# Altium schematic symbol library Isolator.SchLib: 419 symbols (part 5 of 5)
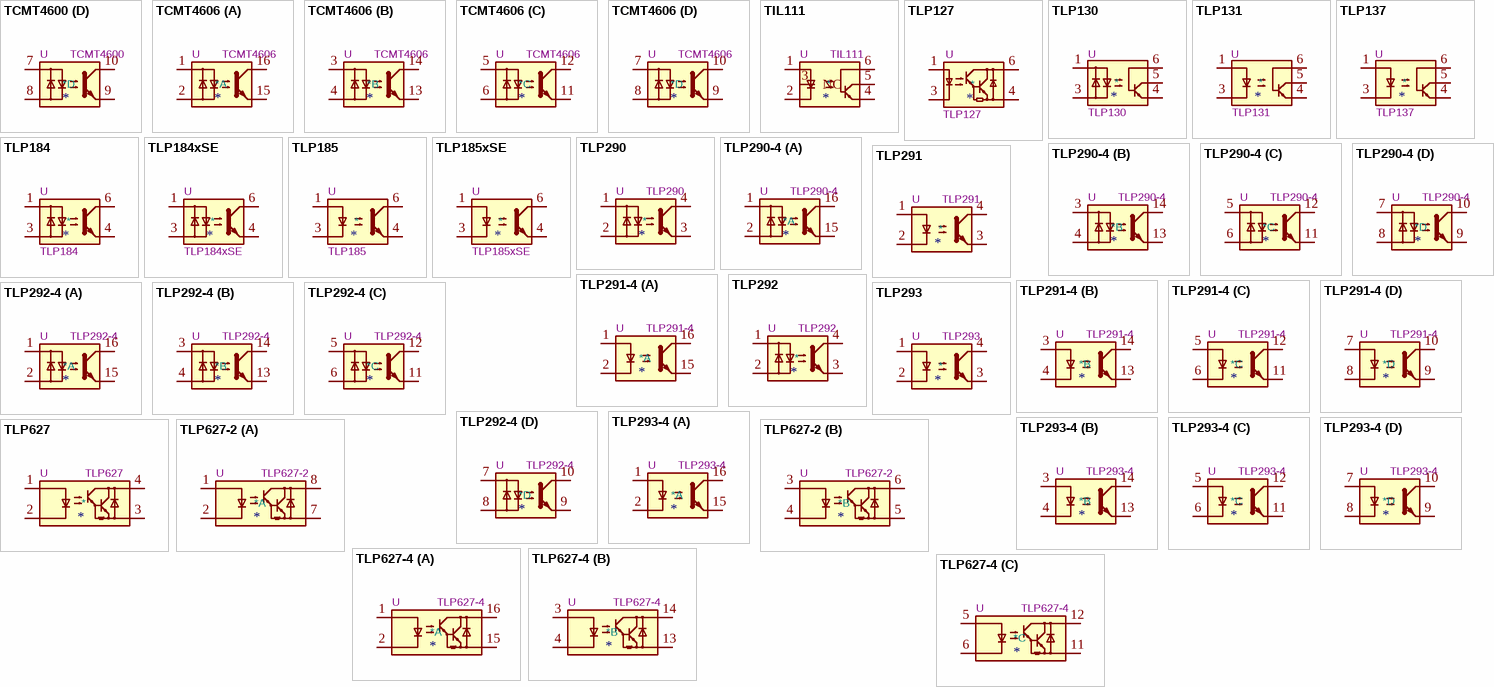
[diagram p16: symbols TCMT4600 to TLP627-4]

## TLP131
designator *  value TLP131  Reference: U
DC Optocoupler Base Connected, Vce 80V, CTR 50-200%, SOIC-5-6 (MFSOP-5-6); ki_keywords: NPN DC Optocoupler Base Connected; ki_fp_filters: Toshiba?SOIC*6?4.4x3.6mm?P1.27mm*; Footprint: Package_SO:Toshiba_SOIC-5-6_4.4x3.6mm_P1.27mm; Datasheet: https://www.mouser.com/datasheet/2/408/toshiba%20america%20electronic%20components%20inc_tlp131_e-1209373.pdf; Description_: DC Optocoupler Base Connected, Vce 80V, CTR 50-200%, SOIC-5-6 (MFSOP-5-6)
pins: 1, 3, 4, 5, 6

## TLP137
designator *  value TLP137  Reference: U
DC Optocoupler Base Connected, Vce 80V, CTR 100-200%, SOIC-5-6 (MFSOP-5-6); ki_keywords: NPN DC Optocoupler Base Connected; ki_fp_filters: Toshiba?SOIC*6?4.4x3.6mm?P1.27mm*; Footprint: Package_SO:Toshiba_SOIC-5-6_4.4x3.6mm_P1.27mm; Datasheet: https://toshiba.semicon-storage.com/info/docget.jsp?did=16744&prodName=TLP137; Description_: DC Optocoupler Base Connected, Vce 80V, CTR 100-200%, SOIC-5-6 (MFSOP-5-6)
pins: 1, 3, 4, 5, 6

## TLP184
designator *  value TLP184  Reference: U
AC/DC Optocoupler, Vce 80V, CTR 50-100%, SOIC-4-6 (MFSOP-4-6); ki_keywords: NPN AC DC Optocoupler; ki_fp_filters: Toshiba?SOIC*6?4.4x3.6mm?P1.27mm*; Footprint: Package_SO:Toshiba_SOIC-4-6_4.4x3.6mm_P1.27mm; Datasheet: https://toshiba.semicon-storage.com/info/docget.jsp?did=11793&prodName=TLP184; Description_: AC/DC Optocoupler, Vce 80V, CTR 50-100%, SOIC-4-6 (MFSOP-4-6)
pins: 1, 3, 4, 6

## TLP184xSE
designator *  value TLP184xSE  Reference: U
AC/DC Optocoupler, Vce 80V, CTR 50-100%, SOIC-4-6 (MFSOP-4-6); ki_keywords: NPN AC DC Optocoupler; ki_fp_filters: Toshiba?SOIC*6?4.4x3.6mm?P1.27mm*; Footprint: Package_SO:Toshiba_SOIC-4-6_4.4x3.6mm_P1.27mm; Datasheet: https://toshiba.semicon-storage.com/info/docget.jsp?did=14118&prodName=TLP184(SE; Description_: AC/DC Optocoupler, Vce 80V, CTR 50-100%, SOIC-4-6 (MFSOP-4-6)
pins: 1, 3, 4, 6

## TLP185
designator *  value TLP185  Reference: U
DC Optocoupler, Vce 80V, CTR 50-100%, SOIC-4-6 (MFSOP-4-6); ki_keywords: NPN DC Optocoupler; ki_fp_filters: SOIC*4.55x3.7mm*P2.54mm*; Footprint: Package_SO:SOIC-4_4.55x3.7mm_P2.54mm; Datasheet: https://toshiba.semicon-storage.com/info/docget.jsp?did=11791&prodName=TLP185; Description_: DC Optocoupler, Vce 80V, CTR 50-100%, SOIC-4-6 (MFSOP-4-6)
pins: 1, 3, 4, 6

## TLP185xSE
designator *  value TLP185xSE  Reference: U
DC Optocoupler, Vce 80V, CTR 50-100%, SOIC-4-6 (MFSOP-4-6); ki_keywords: NPN DC Optocoupler; ki_fp_filters: SOIC*4.55x3.7mm*P2.54mm*; Footprint: Package_SO:SOIC-4_4.55x3.7mm_P2.54mm; Datasheet: https://toshiba.semicon-storage.com/info/docget.jsp?did=14111&prodName=TLP185(SE; Description_: DC Optocoupler, Vce 80V, CTR 50-100%, SOIC-4-6 (MFSOP-4-6)
pins: 1, 3, 4, 6

## TLP290
designator *  value TLP290  Reference: U
AC/DC Phototransistor Optocoupler, Vce 80V, CTR 50-600%, not recommended for new designs, SOP4; ki_keywords: NPN AC DC Phototransistor Optocoupler; ki_fp_filters: SOP*4*4.4x2.6mm*P1.27mm*; Footprint: Package_SO:SOP-4_4.4x2.6mm_P1.27mm; Datasheet: https://toshiba.semicon-storage.com/info/docget.jsp?did=12882&prodName=TLP290; Description_: AC/DC Phototransistor Optocoupler, Vce 80V, CTR 50-600%, not recommended for new designs, SOP4
pins: 1, 2, 3, 4

## TLP290-4
designator *  value TLP290-4  Reference: U
Quad AC/DC Phototransistor Optocoupler, Vce 80V, CTR 50-600%, SOP16; ki_keywords: NPN AC DC Quad Phototransistor Optocoupler; ki_fp_filters: SOP*4.55x10.3mm*P1.27mm*; Footprint: Package_SO:SOP-16_4.55x10.3mm_P1.27mm; Datasheet: https://toshiba.semicon-storage.com/info/docget.jsp?did=12855&prodName=TLP290-4; Description_: Quad AC/DC Phototransistor Optocoupler, Vce 80V, CTR 50-600%, SOP16
part A pins: 1, 2, 15, 16
part B pins: 3, 4, 13, 14
part C pins: 5, 6, 11, 12
part D pins: 7, 8, 9, 10

## TLP291
designator *  value TLP291  Reference: U
DC Optocoupler, Vce 80V, CTR 50-100%, SOP4; ki_keywords: NPN DC Optocoupler; ki_fp_filters: SOIC*4.55x2.6mm*P1.27mm*; Footprint: Package_SO:SOIC-4_4.55x2.6mm_P1.27mm; Datasheet: https://toshiba.semicon-storage.com/info/docget.jsp?did=12884&prodName=TLP291; Description_: DC Optocoupler, Vce 80V, CTR 50-100%, SOP4
pins: 1, 2, 3, 4

## TLP291-4
designator *  value TLP291-4  Reference: U
Quad DC Optocoupler, Vce 80V, CTR 50-100%, SOP16; ki_keywords: NPN DC Quad Optocoupler; ki_fp_filters: SOIC*4.55x10.3mm*P1.27mm*; Footprint: Package_SO:SOIC-16_4.55x10.3mm_P1.27mm; Datasheet: https://toshiba.semicon-storage.com/info/docget.jsp?did=12858&prodName=TLP291-4; Description_: Quad DC Optocoupler, Vce 80V, CTR 50-100%, SOP16
part A pins: 1, 2, 15, 16
part B pins: 3, 4, 13, 14
part C pins: 5, 6, 11, 12
part D pins: 7, 8, 9, 10

## TLP292
designator *  value TLP292  Reference: U
AC/DC Phototransistor Optocoupler, Vce 80V, CTR 50-200%, SOP4; ki_keywords: NPN AC DC Phototransistor Optocoupler; ki_fp_filters: SOIC*4.55x2.6mm*P1.27mm*; Footprint: Package_SO:SOIC-4_4.55x2.6mm_P1.27mm; Datasheet: https://toshiba.semicon-storage.com/info/TLP292_datasheet_en_20191129.pdf?did=14425&prodName=TLP292; Description_: AC/DC Phototransistor Optocoupler, Vce 80V, CTR 50-200%, SOP4
pins: 1, 2, 3, 4

## TLP292-4
designator *  value TLP292-4  Reference: U
Quad AC/DC Phototransistor Optocoupler, Vce 80V, CTR 50-200%, SOP16; ki_keywords: NPN AC DC Quad Phototransistor Optocoupler; ki_fp_filters: SOP*4.55x10.3mm*P1.27mm*; Footprint: Package_SO:SOP-16_4.55x10.3mm_P1.27mm; Datasheet: https://toshiba.semicon-storage.com/info/TLP292-4_datasheet_en_20190520.pdf?did=15284&prodName=TLP292-4; Description_: Quad AC/DC Phototransistor Optocoupler, Vce 80V, CTR 50-200%, SOP16
part A pins: 1, 2, 15, 16
part B pins: 3, 4, 13, 14
part C pins: 5, 6, 11, 12
part D pins: 7, 8, 9, 10

## TLP293
designator *  value TLP293  Reference: U
DC Optocoupler, Vce 80V, CTR 50-100%, SOP4; ki_keywords: NPN DC Optocoupler; ki_fp_filters: SOIC*4.55x2.6mm*P1.27mm*; Footprint: Package_SO:SOIC-4_4.55x2.6mm_P1.27mm; Datasheet: https://toshiba.semicon-storage.com/info/TLP293_datasheet_en_20191129.pdf?did=14419&prodName=TLP293; Description_: DC Optocoupler, Vce 80V, CTR 50-100%, SOP4
pins: 1, 2, 3, 4

## TLP293-4
designator *  value TLP293-4  Reference: U
Quad DC Optocoupler, Vce 80V, CTR 50-100%, SOP16; ki_keywords: NPN DC Quad Optocoupler; ki_fp_filters: SOIC*4.55x10.3mm*P1.27mm*; Footprint: Package_SO:SOIC-16_4.55x10.3mm_P1.27mm; Datasheet: https://toshiba.semicon-storage.com/info/TLP293-4_datasheet_en_20190520.pdf?did=15287&prodName=TLP293-4; Description_: Quad DC Optocoupler, Vce 80V, CTR 50-100%, SOP16
part A pins: 1, 2, 15, 16
part B pins: 3, 4, 13, 14
part C pins: 5, 6, 11, 12
part D pins: 7, 8, 9, 10

## TLP627
designator *  value TLP627  Reference: U
DC Darlington Optocoupler, Vce 300V, CTR 1000%, DIP4; ki_keywords: NPN Darlington DC Optocoupler; ki_fp_filters: DIP*W7.62mm*; Footprint: Package_DIP:DIP-4_W7.62mm; Datasheet: https://toshiba.semicon-storage.com/info/docget.jsp?did=16914&prodName=TLP627; Description_: DC Darlington Optocoupler, Vce 300V, CTR 1000%, DIP4
pins: 1, 2, 3, 4

## TLP627-2
designator *  value TLP627-2  Reference: U
DC Dual Darlington Optocoupler, Vce 300V, CTR 1000%, DIP8; ki_keywords: NPN Dual Darlington DC Optocoupler; ki_fp_filters: DIP*W7.62mm*; Footprint: Package_DIP:DIP-8_W7.62mm; Datasheet: https://toshiba.semicon-storage.com/info/docget.jsp?did=16914&prodName=TLP627; Description_: DC Dual Darlington Optocoupler, Vce 300V, CTR 1000%, DIP8
part A pins: 1, 2, 7, 8
part B pins: 3, 4, 5, 6

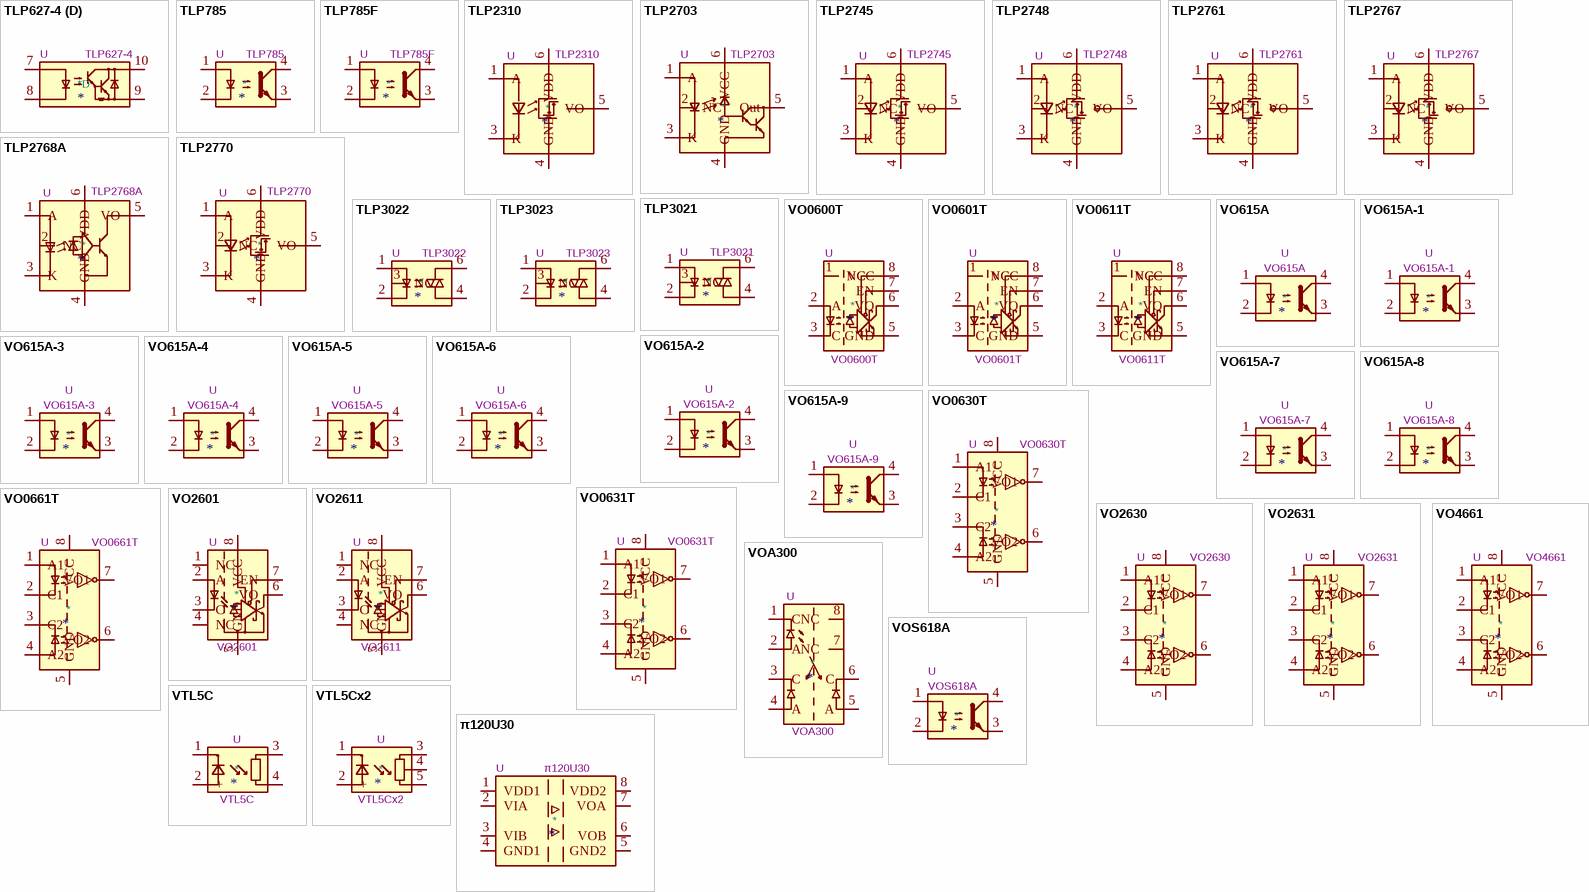
[diagram p11: symbols TLP627-4 to π120U30]

## TLP627-4
designator *  value TLP627-4  Reference: U
DC Quad Darlington Optocoupler, Vce 300V, CTR 1000%, DIP16; ki_keywords: NPN Quad Darlington DC Optocoupler; ki_fp_filters: DIP*W7.62mm*; Footprint: Package_DIP:DIP-16_W7.62mm; Datasheet: https://toshiba.semicon-storage.com/info/docget.jsp?did=16914&prodName=TLP627; Description_: DC Quad Darlington Optocoupler, Vce 300V, CTR 1000%, DIP16
part A pins: 1, 2, 15, 16
part B pins: 3, 4, 13, 14
part C pins: 5, 6, 11, 12
part D pins: 7, 8, 9, 10

## TLP785
designator *  value TLP785  Reference: U
DC Optocoupler, Vce 80V, CTR 50-200%, DIP4; ki_keywords: NPN DC Optocoupler; ki_fp_filters: DIP*W7.62mm*; Footprint: Package_DIP:DIP-4_W7.62mm; Datasheet: https://toshiba.semicon-storage.com/info/docget.jsp?did=10569&prodName=TLP785; Description_: DC Optocoupler, Vce 80V, CTR 50-200%, DIP4
pins: 1, 2, 3, 4

## TLP785F
designator *  value TLP785F  Reference: U
DC Optocoupler, Vce 80V, CTR 50-200%, DIP4F; ki_keywords: NPN DC Optocoupler; ki_fp_filters: DIP*W10.16mm*; Footprint: Package_DIP:DIP-4_W10.16mm; Datasheet: https://toshiba.semicon-storage.com/info/docget.jsp?did=10569&prodName=TLP785F; Description_: DC Optocoupler, Vce 80V, CTR 50-200%, DIP4F
pins: 1, 2, 3, 4

## TLP2310
designator *  value TLP2310  Reference: U
5-Mbps low-power non inverting photocouple, 3.75 kVrms, 2.7 - 5.5 Vdd, push-pull output; ki_keywords: Optocoupler high-speed Toshiba; ki_fp_filters: SO*4.55x3.7mm*P1.27mm*; Footprint: Package_SO:SO-5-6_4.55x3.7mm_P1.27mm; Datasheet: https://toshiba.semicon-storage.com/info/TLP2310_datasheet_en_20220913.pdf?did=29657&prodName=TLP2310; Description_: 5-Mbps low-power non inverting photocouple, 3.75 kVrms, 2.7 - 5.5 Vdd, push-pull output
pins: 1 A, 3 K, 4 GND, 5 VO, 6 VDD

## TLP2703
designator *  value TLP2703  Reference: U
100 kbps, High-speed GaA&As, high-gain, 4.5 - 18 VCC, 5 kVrms, CTR 900%, SO-6L; ki_keywords: NPN Darlington DC Optocoupler; ki_fp_filters: SO*6L*10x3.84mm*P1.27mm*; Footprint: Package_SO:SO-6L_10x3.84mm_P1.27mm; Datasheet: https://toshiba.semicon-storage.com/info/docget.jsp?did=15216&prodName=TLP2703; Description_: 100 kbps, High-speed GaA&As, high-gain, 4.5 - 18 VCC, 5 kVrms, CTR 900%, SO-6L
pins: 1 A, 2 NC, 3 K, 4 GND, 5 Out, 6 VCC

## TLP2745
designator *  value TLP2745  Reference: U
10-Mbps low-power non inverting photocouple,5 kVrms, 4.5 - 30 Vdd, push-pull output; ki_keywords: Photocouple highspeed non inverting push-pull output; ki_fp_filters: SO*6L*10x3.84mm*P1.27mm*; Footprint: Package_SO:SO-6L_10x3.84mm_P1.27mm; Datasheet: https://toshiba.semicon-storage.com/info/docget.jsp?did=29405&prodName=TLP2745; Description_: 10-Mbps low-power non inverting photocouple,5 kVrms, 4.5 - 30 Vdd, push-pull output
pins: 1 A, 2 NC, 3 K, 4 GND, 5 VO, 6 VDD

## TLP2748
designator *  value TLP2748  Reference: U
10-Mbps inverting photocouple,5 kVrms, 4.5 - 30 Vdd, push-pull output, SO-6L; ki_keywords: Photocouple highspeed inverting push-pull output; ki_fp_filters: SO*6L*10x3.84mm*P1.27mm*; Footprint: Package_SO:SO-6L_10x3.84mm_P1.27mm; Datasheet: https://toshiba.semicon-storage.com/info/docget.jsp?did=29407&prodName=TLP2748; Description_: 10-Mbps inverting photocouple,5 kVrms, 4.5 - 30 Vdd, push-pull output, SO-6L
pins: 1 A, 2 NC, 3 K, 4 GND, 5 VO, 6 VDD

## TLP2761
designator *  value TLP2761  Reference: U
15-Mbps inverting photocouple,5 kVrms, 2.7 - 5.5 Vdd, push-pull output; ki_keywords: Photocouple highspeed inverting push-pull output; ki_fp_filters: SO*6L*10x3.84mm*P1.27mm*; Footprint: Package_SO:SO-6L_10x3.84mm_P1.27mm; Datasheet: https://toshiba.semicon-storage.com/info/docget.jsp?did=28819&prodName=TLP2761; Description_: 15-Mbps inverting photocouple,5 kVrms, 2.7 - 5.5 Vdd, push-pull output
pins: 1 A, 2 NC, 3 K, 4 GND, 5 VO, 6 VDD

## TLP2767
designator *  value TLP2767  Reference: U
50-Mbps high speed inverting photocouple,5 kVrms, 2.7 - 5.5 Vdd, push-pull output; ki_keywords: Photocouple highspeed inverting push-pull output; ki_fp_filters: SO*6L*10x3.84mm*P1.27mm*; Footprint: Package_SO:SO-6L_10x3.84mm_P1.27mm; Datasheet: https://toshiba.semicon-storage.com/info/docget.jsp?did=36717&prodName=TLP2767; Description_: 50-Mbps high speed inverting photocouple,5 kVrms, 2.7 - 5.5 Vdd, push-pull output
pins: 1 A, 2 NC, 3 K, 4 GND, 5 VO, 6 VDD

## TLP2768A
designator *  value TLP2768A  Reference: U
20-Mbps high speed inverting photocouple,5 kVrms, 2.7 - 5.5 Vdd, open collector, SO-6L; ki_keywords: Photocouple highspeed inverting open collector output; ki_fp_filters: SO*6L*10x3.84mm*P1.27mm*; Footprint: Package_SO:SO-6L_10x3.84mm_P1.27mm; Datasheet: https://toshiba.semicon-storage.com/info/docget.jsp?did=36717&prodName=TLP2768A; Description_: 20-Mbps high speed inverting photocouple,5 kVrms, 2.7 - 5.5 Vdd, open collector, SO-6L
pins: 1 A, 2 NC, 3 K, 4 GND, 5 VO, 6 VDD

## TLP2770
designator *  value TLP2770  Reference: U
20-Mbps low-power non inverting photocouple,5 kVrms, 2.7 to 5.5 Vdd, push-pull output, SO-6L; ki_keywords: Photocouple highspeed non inverting push-pull output; ki_fp_filters: SO*6L*10x3.84mm*P1.27mm*; Footprint: Package_SO:SO-6L_10x3.84mm_P1.27mm; Datasheet: https://toshiba.semicon-storage.com/info/docget.jsp?did=53548&prodName=TLP2770; Description_: 20-Mbps low-power non inverting photocouple,5 kVrms, 2.7 to 5.5 Vdd, push-pull output, SO-6L
pins: 1 A, 2 NC, 3 K, 4 GND, 5 VO, 6 VDD

## TLP3021
designator *  value TLP3021  Reference: U
Photo-Triac, Vdrm 400V, Ift 15mA, DIP6; ki_keywords: Photo-Triac Opto Triac; ki_fp_filters: Toshiba*11?7A9*; Footprint: Package_DIP:Toshiba_11-7A9; Datasheet: https://toshiba.semicon-storage.com/info/docget.jsp?did=1421&prodName=TLP3021(S); Description_: Photo-Triac, Vdrm 400V, Ift 15mA, DIP6
pins: 1, 2, 3 NC, 4, 6

## TLP3022
designator *  value TLP3022  Reference: U
Photo-Triac, Vdrm 400V, Ift 10mA, DIP6; ki_keywords: Photo-Triac Opto Triac; ki_fp_filters: Toshiba*11?7A9*; Footprint: Package_DIP:Toshiba_11-7A9; Datasheet: https://toshiba.semicon-storage.com/info/docget.jsp?did=1421&prodName=TLP3021(S); Description_: Photo-Triac, Vdrm 400V, Ift 10mA, DIP6
pins: 1, 2, 3 NC, 4, 6

## TLP3023
designator *  value TLP3023  Reference: U
Photo-Triac, Vdrm 400V, Ift 5mA, DIP6; ki_keywords: Photo-Triac Opto Triac; ki_fp_filters: Toshiba*11?7A9*; Footprint: Package_DIP:Toshiba_11-7A9; Datasheet: https://toshiba.semicon-storage.com/info/docget.jsp?did=1421&prodName=TLP3021(S); Description_: Photo-Triac, Vdrm 400V, Ift 5mA, DIP6
pins: 1, 2, 3 NC, 4, 6

## VO0600T
designator *  value VO0600T  Reference: U
Single High Speed CMOS Compatible Optocoupler with enable, dV/dt 1000/us, VCM 10, max 7V VCC, SOIC-8; ki_keywords: High speed optically coupled gates enable; ki_fp_filters: SOIC*3.9x4.9mm?P1.27mm*; Footprint: Package_SO:SOIC-8_3.9x4.9mm_P1.27mm; Datasheet: http://www.vishay.com/doc?84607; Description_: Single High Speed CMOS Compatible Optocoupler with enable, dV/dt 1000/us, VCM 10, max 7V VCC, SOIC-8
pins: 1 NC, 2 A, 3 C, 5 GND, 6 VO, 7 EN, 8 VCC

## VO0601T
designator *  value VO0601T  Reference: U
Single High Speed CMOS Compatible Optocoupler with enable, dV/dt 5000/us, VCM 50, max 7V VCC, SOIC-8; ki_keywords: High speed optically coupled gates enable; ki_fp_filters: SOIC*3.9x4.9mm?P1.27mm*; Footprint: Package_SO:SOIC-8_3.9x4.9mm_P1.27mm; Datasheet: http://www.vishay.com/doc?84607; Description_: Single High Speed CMOS Compatible Optocoupler with enable, dV/dt 5000/us, VCM 50, max 7V VCC, SOIC-8
pins: 1 NC, 2 A, 3 C, 5 GND, 6 VO, 7 EN, 8 VCC

## VO0611T
designator *  value VO0611T  Reference: U
Single High Speed CMOS Compatible Optocoupler with enable, dV/dt 15000/us, VCM 1000, max 7V VCC, SOIC-8; ki_keywords: High speed optically coupled gates enable; ki_fp_filters: SOIC*3.9x4.9mm?P1.27mm*; Footprint: Package_SO:SOIC-8_3.9x4.9mm_P1.27mm; Datasheet: http://www.vishay.com/doc?84607; Description_: Single High Speed CMOS Compatible Optocoupler with enable, dV/dt 15000/us, VCM 1000, max 7V VCC, SOIC-8
pins: 1 NC, 2 A, 3 C, 5 GND, 6 VO, 7 EN, 8 VCC

## VO615A
designator *  value VO615A  Reference: U
DC Optocoupler, Vce 70V, CTR 50-600% @ 5mA, Viso 5000Vrms, DIP4; ki_keywords: NPN DC Optocoupler; ki_fp_filters: DIP*W7.62mm* DIP*W10.16mm* SMDIP*W7.62mm* SMDIP*W9.53mm* SMDIP*W11.48mm*; Datasheet: http://www.vishay.com/docs/81753/vo615a.pdf; Description_: DC Optocoupler, Vce 70V, CTR 50-600% @ 5mA, Viso 5000Vrms, DIP4
pins: 1, 2, 3, 4

## VO615A-1
designator *  value VO615A-1  Reference: U
DC Optocoupler, Vce 70V, CTR 40-80% @ 10mA, Viso 5000Vrms, DIP4; ki_keywords: NPN DC Optocoupler; ki_fp_filters: DIP*W7.62mm* DIP*W10.16mm* SMDIP*W7.62mm* SMDIP*W9.53mm* SMDIP*W11.48mm*; Datasheet: http://www.vishay.com/docs/81753/vo615a.pdf; Description_: DC Optocoupler, Vce 70V, CTR 40-80% @ 10mA, Viso 5000Vrms, DIP4
pins: 1, 2, 3, 4

## VO615A-2
designator *  value VO615A-2  Reference: U
DC Optocoupler, Vce 70V, CTR 63-125% @ 10mA, Viso 5000Vrms, DIP4; ki_keywords: NPN DC Optocoupler; ki_fp_filters: DIP*W7.62mm* DIP*W10.16mm* SMDIP*W7.62mm* SMDIP*W9.53mm* SMDIP*W11.48mm*; Datasheet: http://www.vishay.com/docs/81753/vo615a.pdf; Description_: DC Optocoupler, Vce 70V, CTR 63-125% @ 10mA, Viso 5000Vrms, DIP4
pins: 1, 2, 3, 4

## VO615A-3
designator *  value VO615A-3  Reference: U
DC Optocoupler, Vce 70V, CTR 100-200% @ 10mA, Viso 5000Vrms, DIP4; ki_keywords: NPN DC Optocoupler; ki_fp_filters: DIP*W7.62mm* DIP*W10.16mm* SMDIP*W7.62mm* SMDIP*W9.53mm* SMDIP*W11.48mm*; Datasheet: http://www.vishay.com/docs/81753/vo615a.pdf; Description_: DC Optocoupler, Vce 70V, CTR 100-200% @ 10mA, Viso 5000Vrms, DIP4
pins: 1, 2, 3, 4

## VO615A-4
designator *  value VO615A-4  Reference: U
DC Optocoupler, Vce 70V, CTR 160-320% @ 10mA, Viso 5000Vrms, DIP4; ki_keywords: NPN DC Optocoupler; ki_fp_filters: DIP*W7.62mm* DIP*W10.16mm* SMDIP*W7.62mm* SMDIP*W9.53mm* SMDIP*W11.48mm*; Datasheet: http://www.vishay.com/docs/81753/vo615a.pdf; Description_: DC Optocoupler, Vce 70V, CTR 160-320% @ 10mA, Viso 5000Vrms, DIP4
pins: 1, 2, 3, 4

## VO615A-5
designator *  value VO615A-5  Reference: U
DC Optocoupler, Vce 70V, CTR 50-150% @ 5mA, Viso 5000Vrms, DIP4; ki_keywords: NPN DC Optocoupler; ki_fp_filters: DIP*W7.62mm* DIP*W10.16mm* SMDIP*W7.62mm* SMDIP*W9.53mm* SMDIP*W11.48mm*; Datasheet: http://www.vishay.com/docs/81753/vo615a.pdf; Description_: DC Optocoupler, Vce 70V, CTR 50-150% @ 5mA, Viso 5000Vrms, DIP4
pins: 1, 2, 3, 4

## VO615A-6
designator *  value VO615A-6  Reference: U
DC Optocoupler, Vce 70V, CTR 100-300% @ 5mA, Viso 5000Vrms, DIP4; ki_keywords: NPN DC Optocoupler; ki_fp_filters: DIP*W7.62mm* DIP*W10.16mm* SMDIP*W7.62mm* SMDIP*W9.53mm* SMDIP*W11.48mm*; Datasheet: http://www.vishay.com/docs/81753/vo615a.pdf; Description_: DC Optocoupler, Vce 70V, CTR 100-300% @ 5mA, Viso 5000Vrms, DIP4
pins: 1, 2, 3, 4

## VO615A-7
designator *  value VO615A-7  Reference: U
DC Optocoupler, Vce 70V, CTR 80-160% @ 5mA, Viso 5000Vrms, DIP4; ki_keywords: NPN DC Optocoupler; ki_fp_filters: DIP*W7.62mm* DIP*W10.16mm* SMDIP*W7.62mm* SMDIP*W9.53mm* SMDIP*W11.48mm*; Datasheet: http://www.vishay.com/docs/81753/vo615a.pdf; Description_: DC Optocoupler, Vce 70V, CTR 80-160% @ 5mA, Viso 5000Vrms, DIP4
pins: 1, 2, 3, 4

## VO615A-8
designator *  value VO615A-8  Reference: U
DC Optocoupler, Vce 70V, CTR 130-260% @ 5mA, Viso 5000Vrms, DIP4; ki_keywords: NPN DC Optocoupler; ki_fp_filters: DIP*W7.62mm* DIP*W10.16mm* SMDIP*W7.62mm* SMDIP*W9.53mm* SMDIP*W11.48mm*; Datasheet: http://www.vishay.com/docs/81753/vo615a.pdf; Description_: DC Optocoupler, Vce 70V, CTR 130-260% @ 5mA, Viso 5000Vrms, DIP4
pins: 1, 2, 3, 4

## VO615A-9
designator *  value VO615A-9  Reference: U
DC Optocoupler, Vce 70V, CTR 200-400% @ 5mA, Viso 5000Vrms, DIP4; ki_keywords: NPN DC Optocoupler; ki_fp_filters: DIP*W7.62mm* DIP*W10.16mm* SMDIP*W7.62mm* SMDIP*W9.53mm* SMDIP*W11.48mm*; Datasheet: http://www.vishay.com/docs/81753/vo615a.pdf; Description_: DC Optocoupler, Vce 70V, CTR 200-400% @ 5mA, Viso 5000Vrms, DIP4
pins: 1, 2, 3, 4

## VO0630T
designator *  value VO0630T  Reference: U
Dual High Speed CMOS Compatible Optocoupler, dV/dt 1000/us, VCM 50, max 7V VCC, SOIC-8; ki_keywords: High speed optically coupled gates; ki_fp_filters: SOIC*3.9x4.9mm?P1.27mm*; Footprint: Package_SO:SOIC-8_3.9x4.9mm_P1.27mm; Datasheet: http://www.vishay.com/doc?84607; Description_: Dual High Speed CMOS Compatible Optocoupler, dV/dt 1000/us, VCM 50, max 7V VCC, SOIC-8
pins: 1 A1, 2 C1, 3 C2, 4 A2, 5 GND, 6 VO2, 7 VO1, 8 VCC

## VO0631T
designator *  value VO0631T  Reference: U
Dual High Speed CMOS Compatible Optocoupler, dV/dt 5000/us, VCM 1000, max 7V VCC, SOIC-8; ki_keywords: High speed optically coupled gates; ki_fp_filters: SOIC*3.9x4.9mm?P1.27mm*; Footprint: Package_SO:SOIC-8_3.9x4.9mm_P1.27mm; Datasheet: http://www.vishay.com/doc?84607; Description_: Dual High Speed CMOS Compatible Optocoupler, dV/dt 5000/us, VCM 1000, max 7V VCC, SOIC-8
pins: 1 A1, 2 C1, 3 C2, 4 A2, 5 GND, 6 VO2, 7 VO1, 8 VCC

## VO0661T
designator *  value VO0661T  Reference: U
Dual High Speed CMOS Compatible Optocoupler, dV/dt 15000/us, VCM 1000, max 7V VCC, SOIC-8; ki_keywords: High speed optically coupled gates; ki_fp_filters: SOIC*3.9x4.9mm?P1.27mm*; Footprint: Package_SO:SOIC-8_3.9x4.9mm_P1.27mm; Datasheet: http://www.vishay.com/doc?84607; Description_: Dual High Speed CMOS Compatible Optocoupler, dV/dt 15000/us, VCM 1000, max 7V VCC, SOIC-8
pins: 1 A1, 2 C1, 3 C2, 4 A2, 5 GND, 6 VO2, 7 VO1, 8 VCC

## VO2601
designator *  value VO2601  Reference: U
Single High Speed CMOS Compatible Optocoupler with enable, dV/dt 5000/us, VCM 50, max 7V VCC, DIP-8; ki_keywords: High speed optically coupled gates enable; ki_fp_filters: DIP*W7.62mm*; Footprint: Package_DIP:DIP-8_W7.62mm; Datasheet: https://www.vishay.com/doc?84732; Description_: Single High Speed CMOS Compatible Optocoupler with enable, dV/dt 5000/us, VCM 50, max 7V VCC, DIP-8
pins: 1 NC, 2 A, 3 C, 4 NC, 5 GND, 6 VO, 7 EN, 8 VCC

## VO2611
designator *  value VO2611  Reference: U
Single High Speed CMOS Compatible Optocoupler with enable, dV/dt 15000/us, VCM 1000, max 7V VCC, DIP-8; ki_keywords: High speed optically coupled gates enable; ki_fp_filters: DIP*W7.62mm*; Footprint: Package_DIP:DIP-8_W7.62mm; Datasheet: https://www.vishay.com/doc?84732; Description_: Single High Speed CMOS Compatible Optocoupler with enable, dV/dt 15000/us, VCM 1000, max 7V VCC, DIP-8
pins: 1 NC, 2 A, 3 C, 4 NC, 5 GND, 6 VO, 7 EN, 8 VCC

## VO2630
designator *  value VO2630  Reference: U
Dual High Speed CMOS Compatible Optocoupler, dV/dt 1000/us, VCM 10, max 7V VCC, DIP-8; ki_keywords: High speed optically coupled gates; ki_fp_filters: DIP*W7.62mm*; Footprint: Package_DIP:DIP-8_W7.62mm; Datasheet: https://www.vishay.com/doc?84732; Description_: Dual High Speed CMOS Compatible Optocoupler, dV/dt 1000/us, VCM 10, max 7V VCC, DIP-8
pins: 1 A1, 2 C1, 3 C2, 4 A2, 5 GND, 6 VO2, 7 VO1, 8 VCC

## VO2631
designator *  value VO2631  Reference: U
Dual High Speed CMOS Compatible Optocoupler, dV/dt 5000/us, VCM 50, max 7V VCC, DIP-8; ki_keywords: High speed optically coupled gates; ki_fp_filters: DIP*W7.62mm*; Footprint: Package_DIP:DIP-8_W7.62mm; Datasheet: https://www.vishay.com/doc?84732; Description_: Dual High Speed CMOS Compatible Optocoupler, dV/dt 5000/us, VCM 50, max 7V VCC, DIP-8
pins: 1 A1, 2 C1, 3 C2, 4 A2, 5 GND, 6 VO2, 7 VO1, 8 VCC

## VO4661
designator *  value VO4661  Reference: U
Dual High Speed CMOS Compatible Optocoupler, dV/dt 15000/us, VCM 1000, max 7V VCC, DIP-8; ki_keywords: High speed optically coupled gates; ki_fp_filters: DIP*W7.62mm*; Footprint: Package_DIP:DIP-8_W7.62mm; Datasheet: https://www.vishay.com/doc?84732; Description_: Dual High Speed CMOS Compatible Optocoupler, dV/dt 15000/us, VCM 1000, max 7V VCC, DIP-8
pins: 1 A1, 2 C1, 3 C2, 4 A2, 5 GND, 6 VO2, 7 VO1, 8 VCC

## VOA300
designator *  value VOA300  Reference: U
Linear Optocoupler, High Gain Stability, 5300VRMS isolation, 200 kHz Bandwidth, DIP-8; ki_keywords: optically coupled gates automotive; ki_fp_filters: DIP*W7.62mm*; Footprint: Package_DIP:DIP-8_W7.62mm; Datasheet: https://mouser.com/pdfDocs/Vishay_VOA300_DS.pdf; Description_: Linear Optocoupler, High Gain Stability, 5300VRMS isolation, 200 kHz Bandwidth, DIP-8
pins: 1 C, 2 A, 3 C, 4 A, 5 A, 6 C, 7 NC, 8 NC

## VOS618A
designator *  value VOS618A  Reference: U
Optocoupler, Phototransistor Output, Low Input Current, SSOP-4; ki_keywords: NPN DC Optocoupler; ki_fp_filters: *SSOP*4.4x2.6mm*P1.27mm*; Footprint: Package_SO:SSOP-4_4.4x2.6mm_P1.27mm; Datasheet: https://www.vishay.com/docs/83465/vos618a.pdf; Description_: Optocoupler, Phototransistor Output, Low Input Current, SSOP-4
pins: 1, 2, 3, 4

## VTL5C
designator *  value VTL5C  Reference: U
Low Cost Axial Vactrols; ki_fp_filters: PerkinElmer*VTL5C*; Footprint: OptoDevice:PerkinElmer_VTL5C; Datasheet: http://www.qsl.net/wa1ion/vactrol/vactrol.pdf; Description_: Low Cost Axial Vactrols; ki_keywords: vactrol
pins: 1 -, 2 +, 3, 4

## VTL5Cx2
designator *  value VTL5Cx2  Reference: U
Dual Element Axial Vactrols; ki_fp_filters: PerkinElmer*VTL5C*; Footprint: OptoDevice:PerkinElmer_VTL5Cx2; Datasheet: http://www.alliedelec.com/m/d/ecb1ed91959ae54d97cf67f5103d9b2b.pdf; Description_: Dual Element Axial Vactrols; ki_keywords: vactrol
pins: 1 -, 2 +, 3, 4, 5

## π120U30
designator *  value π120U30  Reference: U
Dual-channel digital isolator, 3V/5V level translation, Safe LOW, SOIC-8; ki_keywords: Dual-channel digital isolator pi120U30; ki_fp_filters: SOIC*3.9x4.9mm*P1.27mm*; Footprint: Package_SO:SOIC-8_3.9x4.9mm_P1.27mm; Datasheet: http://www.rpsemi.com/public/doc/2Pai_%CF%8012xUxx_20200416_EN.pdf; Description_: Dual-channel digital isolator, 3V/5V level translation, Safe LOW, SOIC-8
pins: 1 VDD1, 2 VIA, 3 VIB, 4 GND1, 5 GND2, 6 VOB, 7 VOA, 8 VDD2

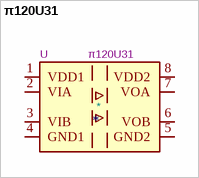
[diagram p12: symbol π120U31]

## π120U31
designator *  value π120U31  Reference: U
Dual-channel digital isolator, 3V/5V level translation, Safe HIGH, SOIC-8; ki_keywords: Dual-channel digital isolator pi120U31; ki_fp_filters: SOIC*3.9x4.9mm*P1.27mm*; Footprint: Package_SO:SOIC-8_3.9x4.9mm_P1.27mm; Datasheet: http://www.rpsemi.com/public/doc/2Pai_%CF%8012xUxx_20200416_EN.pdf; Description_: Dual-channel digital isolator, 3V/5V level translation, Safe HIGH, SOIC-8
pins: 1 VDD1, 2 VIA, 3 VIB, 4 GND1, 5 GND2, 6 VOB, 7 VOA, 8 VDD2